# EAGLE library part DAC6574 (library aggiunte)
DAC 6574 4 CH DAC @ I2C
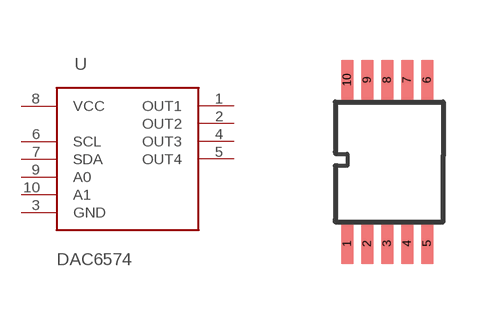
[diagram p10: symbol with the pads of DAC6574; footprint DAC6574]

Designator prefix -

## DAC6574  [DAC6574]
1  OUT1  out
2  OUT2  out
3  GND  pwr
4  OUT3  out
5  OUT4  out
6  SCL  in
7  SDA
8  VCC  pwr
9  A0  in
10  A1  in

## Footprint DAC6574 (pad centres in mm)
smd 0.3 x 1: 1 0.2,0.55; 2 0.7,0.55; 3 1.2,0.55; 4 1.7,0.55; 5 2.2,0.55; 6 2.2,4.65; 7 1.7,4.65; 8 1.2,4.65; 9 0.7,4.65; 10 0.2,4.65